# Altium footprint library DCQ (REGULATOR-PDSO-G6).PcbLib: 1 footprints
Each footprint in its own frame and in the unit in brackets; x right, y up, seen from the top. Pads: shape width x height; smd on the part's side, far side on the other; paste and mask are expansions set on the pad; w line width, h text height; cw(c..) or ccw(c..) is an arc to the next point about the centre after c.
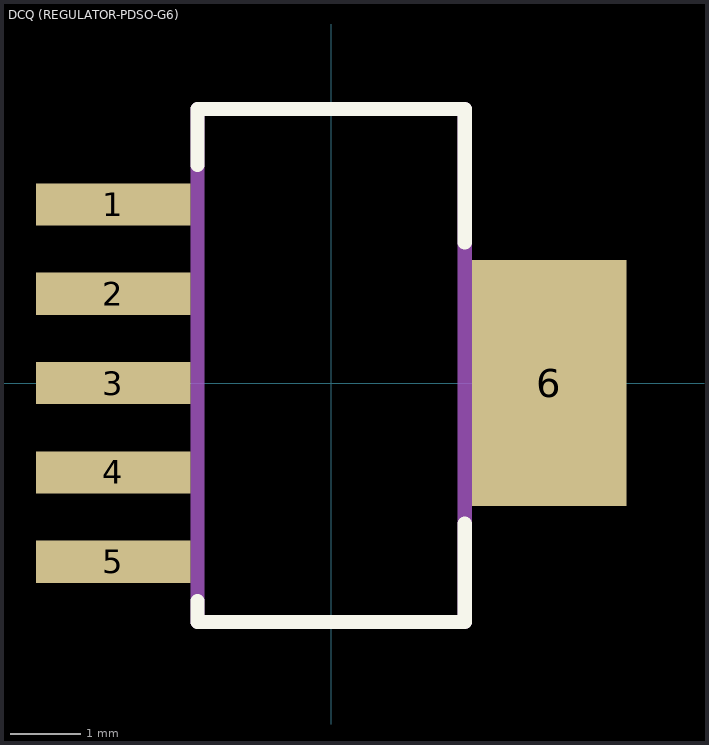
[diagram p0: the footprint, top view; thin cyan lines are the x and y axes]

## DCQ (REGULATOR-PDSO-G6) [mm]
pads (6):
  rect 2.2x0.6 smd: 1(-3.1,2.54) 2(-3.1,1.27) 3(-3.1,0) 4(-3.1,-1.27) 5(-3.1,-2.54)
  rect 2.2x3.5 smd: 6(3.1,0)
Top Overlay:
  lines w0.2: -1.9,-3.1 -1.9,-3.4 1.9,-3.4 1.9,-2 ; -1.9,3.1 -1.9,3.9 1.9,3.9 1.9,2
Mechanical 2:
  lines w0.2: -1.9,-3.4 -1.9,3.9 1.9,3.9 1.9,-3.4 -1.9,-3.4
  text ".Designator" at -0.3,-0.1 h1.5
3D body "User Library-TPS73701DCQ.step": height 1.71, standoff -0.09, extent -3.43,-3.275 3.83,3.275